# Altium schematic symbol library TXOptionsBlock.Schlib: 1 symbol
Pins are listed as number, name and electrical type; pins without a type are passive.

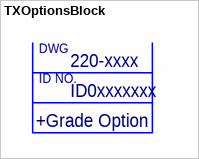
[diagram p0: symbol TXOptionsBlock]

## TXOptionsBlock
designator TB?
text: DWG; 220-xxxx; ID NO.; ID0xxxxxxx; +Grade Option